# EAGLE library part XC3S200A-VQ100 (library xess)
Xilinx Spartan 3A 200K-gate FPGA in VQ100 package
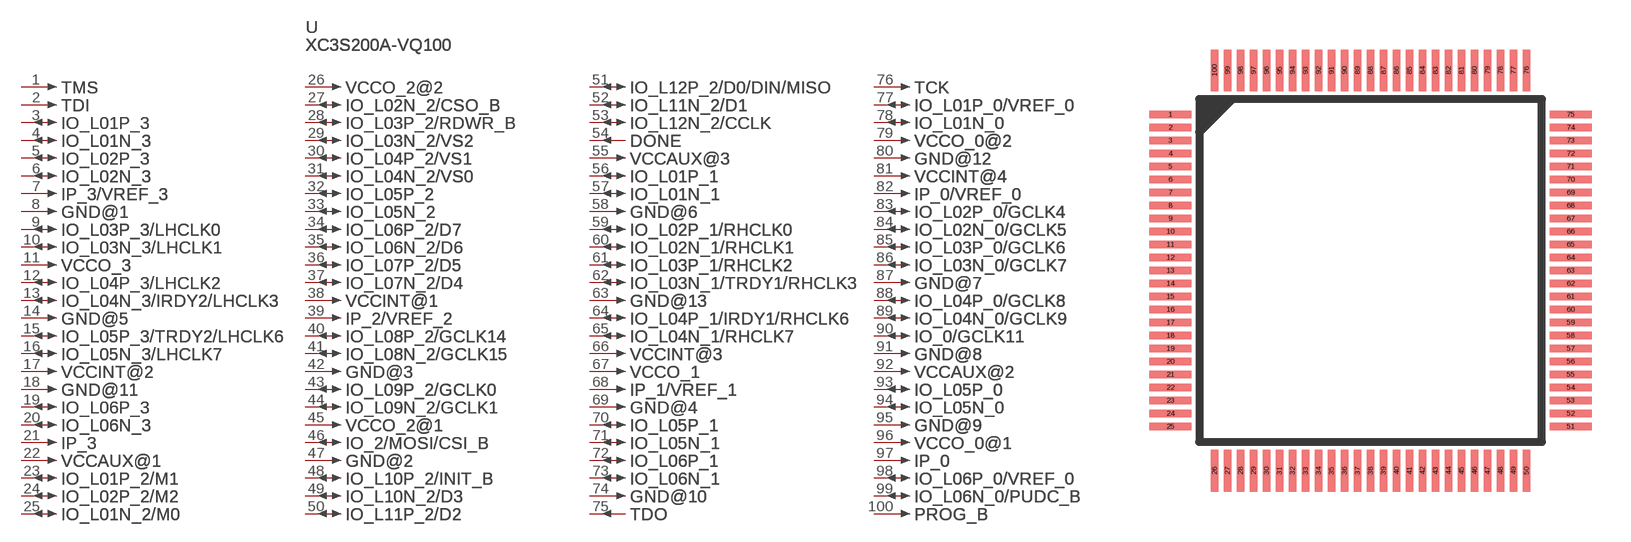
[diagram p129: symbol with the pads of XILINX-VQ100; footprint XILINX-VQ100]

Designator prefix U; gates PART=PV_GATE TMS=PIN_GATE_IN TDI=PIN_GATE_IN IO_L01P_3=PIN_GATE_IO IO_L01N_3=PIN_GATE_IO IO_L02P_3=PIN_GATE_IO IO_L02N_3=PIN_GATE_IO IP_3/VREF_3=PIN_GATE_IN GND@1=PIN_GATE_IN IO_L03P_3/LHCLK0=PIN_GATE_IO IO_L03N_3/LHCLK1=PIN_GATE_IO VCCO_3=PIN_GATE_IN IO_L04P_3/LHCLK2=PIN_GATE_IO IO_L04N_3/IRDY2/LHCLK3=PIN_GATE_IO GND@5=PIN_GATE_IN IO_L05P_3/TRDY2/LHCLK6=PIN_GATE_IO IO_L05N_3/LHCLK7=PIN_GATE_IO VCCINT@2=PIN_GATE_IN GND@11=PIN_GATE_IN IO_L06P_3=PIN_GATE_IO IO_L06N_3=PIN_GATE_IO IP_3=PIN_GATE_IN VCCAUX@1=PIN_GATE_IN IO_L01P_2/M1=PIN_GATE_IO IO_L02P_2/M2=PIN_GATE_IO IO_L01N_2/M0=PIN_GATE_IO VCCO_2@2=PIN_GATE_IN IO_L02N_2/CSO_B=PIN_GATE_IO IO_L03P_2/RDWR_B=PIN_GATE_IO IO_L03N_2/VS2=PIN_GATE_IO IO_L04P_2/VS1=PIN_GATE_IO IO_L04N_2/VS0=PIN_GATE_IO IO_L05P_2=PIN_GATE_IO IO_L05N_2=PIN_GATE_IO IO_L06P_2/D7=PIN_GATE_IO IO_L06N_2/D6=PIN_GATE_IO IO_L07P_2/D5=PIN_GATE_IO IO_L07N_2/D4=PIN_GATE_IO VCCINT@1=PIN_GATE_IN IP_2/VREF_2=PIN_GATE_IN IO_L08P_2/GCLK14=PIN_GATE_IO IO_L08N_2/GCLK15=PIN_GATE_IO GND@3=PIN_GATE_IN IO_L09P_2/GCLK0=PIN_GATE_IO IO_L09N_2/GCLK1=PIN_GATE_IO VCCO_2@1=PIN_GATE_IN IO_2/MOSI/CSI_B=PIN_GATE_IO GND@2=PIN_GATE_IN IO_L10P_2/INIT_B=PIN_GATE_IO IO_L10N_2/D3=PIN_GATE_IO IO_L11P_2/D2=PIN_GATE_IO IO_L12P_2/D0/DIN/MISO=PIN_GATE_IO IO_L11N_2/D1=PIN_GATE_IO IO_L12N_2/CCLK=PIN_GATE_IO DONE=PIN_GATE_OUT VCCAUX@3=PIN_GATE_IN IO_L01P_1=PIN_GATE_IO IO_L01N_1=PIN_GATE_IO GND@6=PIN_GATE_IN IO_L02P_1/RHCLK0=PIN_GATE_IO IO_L02N_1/RHCLK1=PIN_GATE_IO IO_L03P_1/RHCLK2=PIN_GATE_IO IO_L03N_1/TRDY1/RHCLK3=PIN_GATE_IO GND@13=PIN_GATE_IN IO_L04P_1/IRDY1/RHCLK6=PIN_GATE_IO IO_L04N_1/RHCLK7=PIN_GATE_IO VCCINT@3=PIN_GATE_IN VCCO_1=PIN_GATE_IN IP_1/VREF_1=PIN_GATE_IN GND@4=PIN_GATE_IN IO_L05P_1=PIN_GATE_IO IO_L05N_1=PIN_GATE_IO IO_L06P_1=PIN_GATE_IO IO_L06N_1=PIN_GATE_IO GND@10=PIN_GATE_IN TDO=PIN_GATE_OUT TCK=PIN_GATE_IN IO_L01P_0/VREF_0=PIN_GATE_IO IO_L01N_0=PIN_GATE_IO VCCO_0@2=PIN_GATE_IN GND@12=PIN_GATE_IN VCCINT@4=PIN_GATE_IN IP_0/VREF_0=PIN_GATE_IN IO_L02P_0/GCLK4=PIN_GATE_IO IO_L02N_0/GCLK5=PIN_GATE_IO IO_L03P_0/GCLK6=PIN_GATE_IO IO_L03N_0/GCLK7=PIN_GATE_IO GND@7=PIN_GATE_IN IO_L04P_0/GCLK8=PIN_GATE_IO IO_L04N_0/GCLK9=PIN_GATE_IO IO_0/GCLK11=PIN_GATE_IO GND@8=PIN_GATE_IN VCCAUX@2=PIN_GATE_IN IO_L05P_0=PIN_GATE_IO IO_L05N_0=PIN_GATE_IO GND@9=PIN_GATE_IN VCCO_0@1=PIN_GATE_IN IP_0=PIN_GATE_IN IO_L06P_0/VREF_0=PIN_GATE_IO IO_L06N_0/PUDC_B=PIN_GATE_IO PROG_B=PIN_GATE_IN

## XC3S200A-VQ100  [XILINX-VQ100]
1  TMS:1  in
2  TDI:1  in
3  IO_L01P_3:1
4  IO_L01N_3:1
5  IO_L02P_3:1
6  IO_L02N_3:1
7  IP_3/VREF_3:1  in
8  GND@1:1  in
9  IO_L03P_3/LHCLK0:1
10  IO_L03N_3/LHCLK1:1
11  VCCO_3:1  in
12  IO_L04P_3/LHCLK2:1
13  IO_L04N_3/IRDY2/LHCLK3:1
14  GND@5:1  in
15  IO_L05P_3/TRDY2/LHCLK6:1
16  IO_L05N_3/LHCLK7:1
17  VCCINT@2:1  in
18  GND@11:1  in
19  IO_L06P_3:1
20  IO_L06N_3:1
21  IP_3:1  in
22  VCCAUX@1:1  in
23  IO_L01P_2/M1:1
24  IO_L02P_2/M2:1
25  IO_L01N_2/M0:1
26  VCCO_2@2:1  in
27  IO_L02N_2/CSO_B:1
28  IO_L03P_2/RDWR_B:1
29  IO_L03N_2/VS2:1
30  IO_L04P_2/VS1:1
31  IO_L04N_2/VS0:1
32  IO_L05P_2:1
33  IO_L05N_2:1
34  IO_L06P_2/D7:1
35  IO_L06N_2/D6:1
36  IO_L07P_2/D5:1
37  IO_L07N_2/D4:1
38  VCCINT@1:1  in
39  IP_2/VREF_2:1  in
40  IO_L08P_2/GCLK14:1
41  IO_L08N_2/GCLK15:1
42  GND@3:1  in
43  IO_L09P_2/GCLK0:1
44  IO_L09N_2/GCLK1:1
45  VCCO_2@1:1  in
46  IO_2/MOSI/CSI_B:1
47  GND@2:1  in
48  IO_L10P_2/INIT_B:1
49  IO_L10N_2/D3:1
50  IO_L11P_2/D2:1
51  IO_L12P_2/D0/DIN/MISO:1
52  IO_L11N_2/D1:1
53  IO_L12N_2/CCLK:1
54  DONE:1  out
55  VCCAUX@3:1  in
56  IO_L01P_1:1
57  IO_L01N_1:1
58  GND@6:1  in
59  IO_L02P_1/RHCLK0:1
60  IO_L02N_1/RHCLK1:1
61  IO_L03P_1/RHCLK2:1
62  IO_L03N_1/TRDY1/RHCLK3:1
63  GND@13:1  in
64  IO_L04P_1/IRDY1/RHCLK6:1
65  IO_L04N_1/RHCLK7:1
66  VCCINT@3:1  in
67  VCCO_1:1  in
68  IP_1/VREF_1:1  in
69  GND@4:1  in
70  IO_L05P_1:1
71  IO_L05N_1:1
72  IO_L06P_1:1
73  IO_L06N_1:1
74  GND@10:1  in
75  TDO:1  out
76  TCK:1  in
77  IO_L01P_0/VREF_0:1
78  IO_L01N_0:1
79  VCCO_0@2:1  in
80  GND@12:1  in
81  VCCINT@4:1  in
82  IP_0/VREF_0:1  in
83  IO_L02P_0/GCLK4:1
84  IO_L02N_0/GCLK5:1
85  IO_L03P_0/GCLK6:1
86  IO_L03N_0/GCLK7:1
87  GND@7:1  in
88  IO_L04P_0/GCLK8:1
89  IO_L04N_0/GCLK9:1
90  IO_0/GCLK11:1
91  GND@8:1  in
92  VCCAUX@2:1  in
93  IO_L05P_0:1
94  IO_L05N_0:1
95  GND@9:1  in
96  VCCO_0@1:1  in
97  IP_0:1  in
98  IO_L06P_0/VREF_0:1
99  IO_L06N_0/PUDC_B:1
100  PROG_B:1  in

## Footprint XILINX-VQ100 (pad centres in mm)
Xilinx 100-Lead Very Thin Quad Flat Package
smd 1.6 x 0.3: 1 0,0; 2 0,-0.5; 3 0,-1; 4 0,-1.5; 5 0,-2; 6 0,-2.5; 7 0,-3; 8 0,-3.5; 9 0,-4; 10 0,-4.5; 11 0,-5; 12 0,-5.5; 13 0,-6; 14 0,-6.5; 15 0,-7; 16 0,-7.5; 17 0,-8; 18 0,-8.5; 19 0,-9; 20 0,-9.5; 21 0,-10; 22 0,-10.5; 23 0,-11; 24 0,-11.5; 25 0,-12; 51 15.4,-12; 52 15.4,-11.5; 53 15.4,-11; 54 15.4,-10.5; 55 15.4,-10; 56 15.4,-9.5; 57 15.4,-9; 58 15.4,-8.5; 59 15.4,-8; 60 15.4,-7.5; 61 15.4,-7; 62 15.4,-6.5; 63 15.4,-6; 64 15.4,-5.5; 65 15.4,-5; 66 15.4,-4.5; 67 15.4,-4; 68 15.4,-3.5; 69 15.4,-3; 70 15.4,-2.5; 71 15.4,-2; 72 15.4,-1.5; 73 15.4,-1; 74 15.4,-0.5; 75 15.4,0
smd 0.3 x 1.6: 26 1.7,-13.7; 27 2.2,-13.7; 28 2.7,-13.7; 29 3.2,-13.7; 30 3.7,-13.7; 31 4.2,-13.7; 32 4.7,-13.7; 33 5.2,-13.7; 34 5.7,-13.7; 35 6.2,-13.7; 36 6.7,-13.7; 37 7.2,-13.7; 38 7.7,-13.7; 39 8.2,-13.7; 40 8.7,-13.7; 41 9.2,-13.7; 42 9.7,-13.7; 43 10.2,-13.7; 44 10.7,-13.7; 45 11.2,-13.7; 46 11.7,-13.7; 47 12.2,-13.7; 48 12.7,-13.7; 49 13.2,-13.7; 50 13.7,-13.7; 76 13.7,1.7; 77 13.2,1.7; 78 12.7,1.7; 79 12.2,1.7; 80 11.7,1.7; 81 11.2,1.7; 82 10.7,1.7; 83 10.2,1.7; 84 9.7,1.7; 85 9.2,1.7; 86 8.7,1.7; 87 8.2,1.7; 88 7.7,1.7; 89 7.2,1.7; 90 6.7,1.7; 91 6.2,1.7; 92 5.7,1.7; 93 5.2,1.7; 94 4.7,1.7; 95 4.2,1.7; 96 3.7,1.7; 97 3.2,1.7; 98 2.7,1.7; 99 2.2,1.7; 100 1.7,1.7